# EAGLE library part _IC_H-BRIDGE_46V_3A_POWERSO-20_(L298P) (library SamacSys_Parts)
L298P, Full Bridge Motor Driver, 3A Dual Full Bridge Motor Driver,, 25W 4.8 46 V, 20-Pin Power SO Source: Datasheet
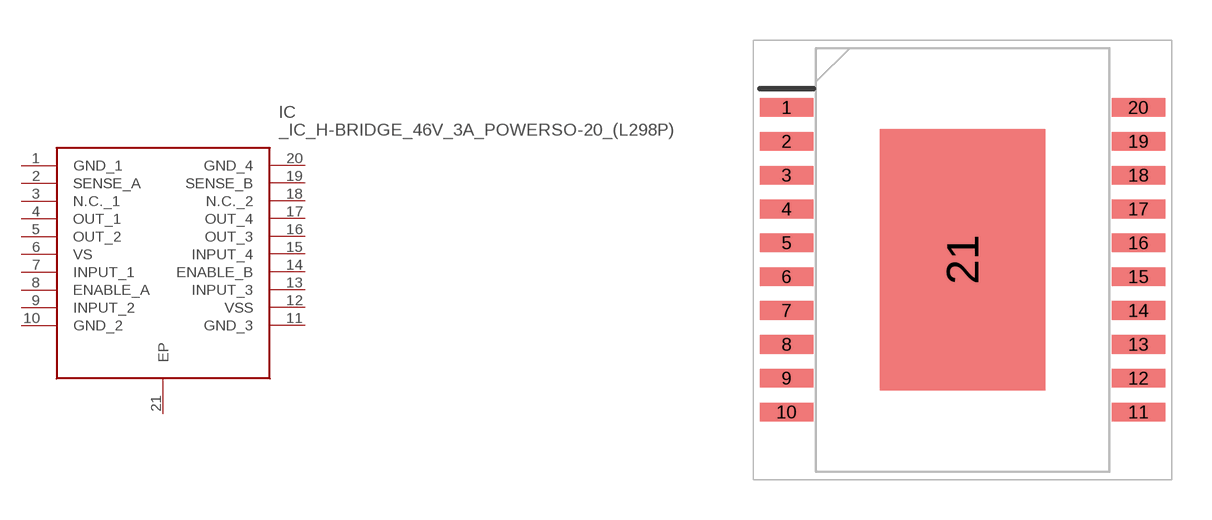
[diagram p20: symbol with the pads of SOIC127P1420X360-21N; footprint SOIC127P1420X360-21N]

Designator prefix IC

## _IC_H-BRIDGE_46V_3A_POWERSO-20_(L298P) (DESCRIPTION: L298P, Full Bridge Motor Driver, 3A Dual Full Bridge Motor Driver,, 25W 4.8 46 V, 20-Pin Power SO; HEIGHT: 3.6mm; MANUFACTURER_NAME: STMicroelectronics; MANUFACTURER_PART_NUMBER: L298P; MOUSER_PART_NUMBER: 511-L298P; MOUSER_PRICE-STOCK: https://www.mouser.co.uk/ProductDetail/STMicroelectronics/L298P/?qs=lDh9v96ogBZNJERYYNX11w%3D%3D)  [SOIC127P1420X360-21N]
1  GND_1
2  SENSE_A
3  N.C._1
4  OUT_1
5  OUT_2
6  VS
7  INPUT_1
8  ENABLE_A
9  INPUT_2
10  GND_2
11  GND_3
12  VSS
13  INPUT_3
14  ENABLE_B
15  INPUT_4
16  OUT_3
17  OUT_4
18  N.C._2
19  SENSE_B
20  GND_4
21  EP

## Footprint SOIC127P1420X360-21N (pad centres in mm)
PowerSO20
smd 2 x 0.7: 1 -6.6,5.715; 2 -6.6,4.445; 3 -6.6,3.175; 4 -6.6,1.905; 5 -6.6,0.635; 6 -6.6,-0.635; 7 -6.6,-1.905; 8 -6.6,-3.175; 9 -6.6,-4.445; 10 -6.6,-5.715; 11 6.6,-5.715; 12 6.6,-4.445; 13 6.6,-3.175; 14 6.6,-1.905; 15 6.6,-0.635; 16 6.6,0.635; 17 6.6,1.905; 18 6.6,3.175; 19 6.6,4.445; 20 6.6,5.715
smd 6.2 x 9.8: 21 0,0